# Altium schematic symbol library CANduino.SchLib: 2 symbols
Pins are listed as number, name and electrical type; pins without a type are passive.

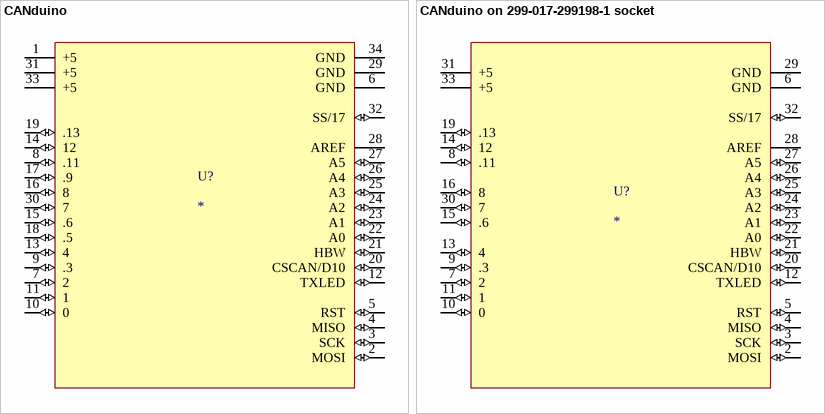
[diagram p0: symbols CANduino to CANduino on 299-017-299198-1 socket]

## CANduino
designator U?
footprint CANduino
pins: 1 +5, 2 MOSI (io), 3 SCK (io), 4 MISO (io), 5 RST (io), 6 GND, 7 2 (io), 8 .11 (io), 9 .3 (io), 10 0 (io), 11 1 (io), 12 TXLED (io), 13 4 (io), 14 12 (io), 15 .6 (io), 16 8 (io), 17 .9 (io), 18 .5 (io), 19 .13 (io), 20 CSCAN/D10 (io), 21 HBW (io), 22 A0 (io), 23 A1 (io), 24 A2 (io), 25 A3 (io), 26 A4 (io), 27 A5 (io), 28 AREF, 29 GND, 30 7 (io), 31 +5 (power), 32 SS/17 (io), 33 +5 (power), 34 GND

## CANduino on 299-017-299198-1 socket
designator U?
CANduino board without pins 1, 17, 18 and 34 due to socket specification
footprint CANduino on 299-017-299198-1 socket
pins: 2 MOSI (io), 3 SCK (io), 4 MISO (io), 5 RST (io), 6 GND, 7 2 (io), 8 .11 (io), 9 .3 (io), 10 0 (io), 11 1 (io), 12 TXLED (io), 13 4 (io), 14 12 (io), 15 .6 (io), 16 8 (io), 19 .13 (io), 20 CSCAN/D10 (io), 21 HBW (io), 22 A0 (io), 23 A1 (io), 24 A2 (io), 25 A3 (io), 26 A4 (io), 27 A5 (io), 28 AREF, 29 GND, 30 7 (io), 31 +5 (power), 32 SS/17 (io), 33 +5 (power)